# Altium schematic symbol library SOT-23 SS8550 Y2.Schlib: 1 symbol
Pins are listed as number, name and electrical type; pins without a type are passive.

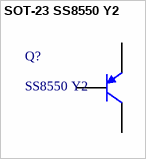
[diagram p0: symbol SOT-23 SS8550 Y2]

## SOT-23 SS8550 Y2
designator Q?, comment SS8550 Y2
三极管
footprint SOT-23(SOT-23-3)
pins: 1 B, 2 E, 3 C